# Altium schematic symbol library HEADER-3PINM-2.54MM.SchLib: 1 symbol
Pins are listed as number, name and electrical type; pins without a type are passive.

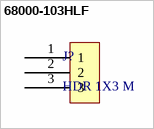
[diagram p0: symbol 68000-103HLF]

## 68000-103HLF
designator J?, comment HDR 1X3 M
AMPHENOL ICC - 68000-103HLF - Pin Header, Board-to-Board, 2.54 mm, 1 Rows, 3 Contacts, Through Hole, FCI BergStik II 68000 Series; Supplier 1: Digi-Key; Manufacturer: Amphenol ICC; Manufacturer Part Number: 68000-103HLF; Stock 1: 48810; Pricing 1: 1=0.33, 10=0.31, 100=0.217, 500=0.186, 1000=0.155, 5000=0.1329, 10000=0.124 (USD); RoHS Compliant: Yes; Supplier Part Number 1: 609-3461-ND
footprint HDR 3P-M-2.54MM
pins: 1, 2, 3